# Altium integrated library Vishay Tansitor Tantalum Axial-Lead Capacitor.IntLib: 9 symbols
Pins are listed as number, name and electrical type; pins without a type are passive.

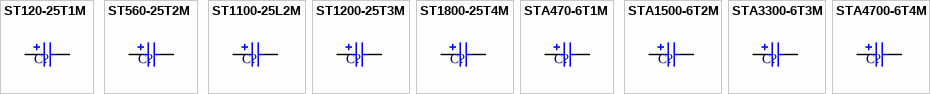
[diagram p0: symbols ST120-25T1M to STA4700-6T4M]

## ST120-25T1M
designator C?
SuperTan Wet Tantalum Capacitor with Hermetic Seal: 120uF, 20% Tolerance, 25 VDC @ +85°C; Note: See Data Sheet for full range of components; Published: 19-Mar-2004; DatasheetDocument: 02-Jan-2002; PackageReference: ST-1; Publisher: Altium Limited; ComponentLink1Description: Manufacturer Link; ComponentLink1URL: http://www.vishay.com/; ComponentLink2Description: Datasheet; ComponentLink2URL: http://www.vishay.com/docs/43000/st.pdf; Value: 120uF
footprint ST-1 (Capacitor, Axial, Polarised; Body 12.3 x 5.2 mm (LxDia. max), Lead Dia. 0.66 mm (typ))
simulation model CAP (Capacitor)
signal-integrity model ST120-25T1M
pins: 1, 2
1 alternate drawing of the same symbol

## ST560-25T2M
designator C?
SuperTan Wet Tantalum Capacitor with Hermetic Seal: 560uF, 20% Tolerance, 25 VDC @ +85°C; Note: See Data Sheet for full range of components; Published: 19-Mar-2004; DatasheetDocument: 02-Jan-2002; PackageReference: ST-2; Publisher: Altium Limited; ComponentLink1Description: Manufacturer Link; ComponentLink1URL: http://www.vishay.com/; ComponentLink2Description: Datasheet; ComponentLink2URL: http://www.vishay.com/docs/43000/st.pdf; Value: 560uF
footprint ST-2 (Capacitor, Axial, Polarised; Body 17.1 x 7.5 mm (LxDia. max), Lead Dia. 0.66 mm (typ))
simulation model CAP (Capacitor)
signal-integrity model ST560-25T2M
pins: 1, 2
1 alternate drawing of the same symbol

## ST1100-25L2M
designator C?
SuperTan Wet Tantalum Capacitor with Hermetic Seal: 1100uF, 20% Tolerance, 25 VDC @ +85°C; Note: See Data Sheet for full range of components; Published: 19-Mar-2004; DatasheetDocument: 02-Jan-2002; PackageReference: ST-L2; Publisher: Altium Limited; ComponentLink1Description: Manufacturer Link; ComponentLink1URL: http://www.vishay.com/; ComponentLink2Description: Datasheet; ComponentLink2URL: http://www.vishay.com/docs/43000/st.pdf; Value: 1100uF
footprint ST-L2 (Capacitor, Axial, Polarised; Body 26.4 x 7.5 mm (LxDia. max), Lead Dia. 0.66 mm (typ))
simulation model CAP (Capacitor)
signal-integrity model ST1100-25L2M
pins: 1, 2
1 alternate drawing of the same symbol

## ST1200-25T3M
designator C?
SuperTan Wet Tantalum Capacitor with Hermetic Seal: 1200uF, 20% Tolerance, 25 VDC @ +85°C; Note: See Data Sheet for full range of components; Published: 19-Mar-2004; DatasheetDocument: 02-Jan-2002; PackageReference: ST-3; Publisher: Altium Limited; ComponentLink1Description: Manufacturer Link; ComponentLink1URL: http://www.vishay.com/; ComponentLink2Description: Datasheet; ComponentLink2URL: http://www.vishay.com/docs/43000/st.pdf; Value: 1200uF
footprint ST-3 (Capacitor, Axial, Polarised; Body 20.2 x 9.9 mm (LxDia. max), Lead Dia. 0.66 mm (typ))
simulation model CAP (Capacitor)
signal-integrity model ST1200-25T3M
pins: 1, 2
1 alternate drawing of the same symbol

## ST1800-25T4M
designator C?
SuperTan Wet Tantalum Capacitor with Hermetic Seal: 1800uF, 20% Tolerance, 25 VDC @ +85°C; Note: See Data Sheet for full range of components; Published: 19-Mar-2004; DatasheetDocument: 02-Jan-2002; PackageReference: ST-4; Publisher: Altium Limited; ComponentLink1Description: Manufacturer Link; ComponentLink1URL: http://www.vishay.com/; ComponentLink2Description: Datasheet; ComponentLink2URL: http://www.vishay.com/docs/43000/st.pdf; Value: 1800uF
footprint ST-4 (Capacitor, Axial, Polarised; Body 27.8 x 9.9 mm (LxDia. max), Lead Dia. 0.66 mm (typ))
simulation model CAP (Capacitor)
signal-integrity model ST1800-25T4M
pins: 1, 2
1 alternate drawing of the same symbol

## STA470-6T1M
designator C?
Wet Tantalum Capacitor with Hermetic Seal: 470uF, 20% Tolerance, 6 VDC @ +85°C; Note: See Data Sheet for full range of components; Published: 19-Mar-2004; DatasheetDocument: 02-Jan-2002; PackageReference: T1; Publisher: Altium Limited; ComponentLink1Description: Manufacturer Link; ComponentLink1URL: http://www.vishay.com/; ComponentLink2Description: Datasheet; ComponentLink2URL: http://www.vishay.com/docs/43013/sta.pdf; Value: 470uF
footprint T1 (Capacitor, Axial, Polarised; Body 12.3 x 5.2 mm (LxDia. max), Lead Dia. 0.64 mm (typ))
simulation model CAP (Capacitor)
signal-integrity model STA470-6T1MI
pins: 1, 2
1 alternate drawing of the same symbol

## STA1500-6T2M
designator C?
Wet Tantalum Capacitor with Hermetic Seal: 1500uF, 20% Tolerance, 6 VDC @ +85°C; Note: See Data Sheet for full range of components; Published: 19-Mar-2004; DatasheetDocument: 02-Jan-2002; PackageReference: T2; Publisher: Altium Limited; ComponentLink1Description: Manufacturer Link; ComponentLink1URL: http://www.vishay.com/; ComponentLink2Description: Datasheet; ComponentLink2URL: http://www.vishay.com/docs/43013/sta.pdf; Value: 1500uF
footprint T2 (Capacitor, Axial, Polarised; Body 17.1 x 7.5 mm (LxDia. max), Lead Dia. 0.64 mm (typ))
simulation model CAP (Capacitor)
signal-integrity model STA1500-6T2MI
pins: 1, 2
1 alternate drawing of the same symbol

## STA3300-6T3M
designator C?
Wet Tantalum Capacitor with Hermetic Seal: 3300uF, 20% Tolerance, 6 VDC @ +85°C; Note: See Data Sheet for full range of components; Published: 19-Mar-2004; DatasheetDocument: 02-Jan-2002; PackageReference: T3; Publisher: Altium Limited; ComponentLink1Description: Manufacturer Link; ComponentLink1URL: http://www.vishay.com/; ComponentLink2Description: Datasheet; ComponentLink2URL: http://www.vishay.com/docs/43013/sta.pdf; Value: 3300uF
footprint T3 (Capacitor, Axial, Polarised; Body 20.2 x 9.9 mm (LxDia. max), Lead Dia. 0.64 mm (typ))
simulation model CAP (Capacitor)
signal-integrity model STA3300-6T3MI
pins: 1, 2
1 alternate drawing of the same symbol

## STA4700-6T4M
designator C?
Wet Tantalum Capacitor with Hermetic Seal: 4700uF, 20% Tolerance, 6 VDC @ +85°C; Note: See Data Sheet for full range of components; Published: 19-Mar-2004; DatasheetDocument: 02-Jan-2002; PackageReference: T4; Publisher: Altium Limited; ComponentLink1Description: Manufacturer Link; ComponentLink1URL: http://www.vishay.com/; ComponentLink2Description: Datasheet; ComponentLink2URL: http://www.vishay.com/docs/43013/sta.pdf; Value: 4700uF
footprint T4 (Capacitor, Axial, Polarised; Body 27.8 x 9.9 mm (LxDia. max), Lead Dia. 0.64 mm (typ))
simulation model CAP (Capacitor)
signal-integrity model STA4700-6T4MI
pins: 1, 2
1 alternate drawing of the same symbol